# EAGLE library part HDS (library trafo-bei)
Transformer Dual primary 115/230V 50/60HZ 10.0VA Source: BEI_DDS30F_10VA_size.pdf
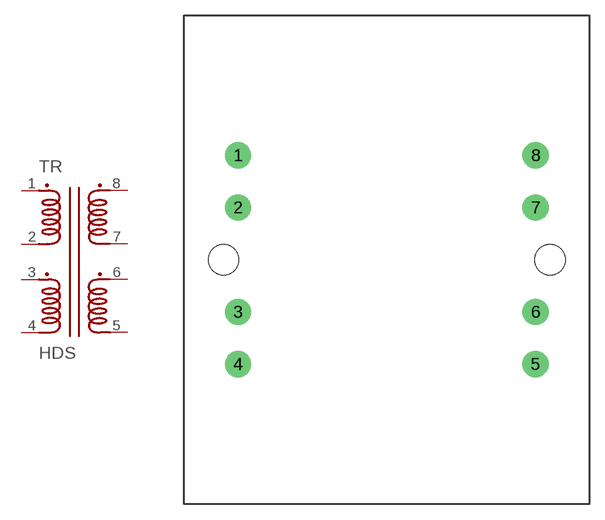
[diagram p0: symbol with the pads of HDS28G2; footprint HDS28G2]

Designator prefix TR

## HDS28G2  [HDS28G2]
1  P1.1  pas
2  P1.2  pas
3  P2.1  pas
4  P2.2  pas
5  S2.2  pas
6  S2.1  pas
7  S1.2  pas
8  S1.1  pas

## Footprint HDS28G2 (pad centres in mm)
Transformer Dual primary 115/230V 50/60HZ 10.0VA Source: BEI_DDS30F_10VA_size.pdf
drill 1.27 pad 2.54 round: 1 -14.478,10.16; 2 -14.478,5.08; 3 -14.478,-5.08; 4 -14.478,-10.16; 5 14.478,-10.16; 6 14.478,-5.08; 7 14.478,5.08; 8 14.478,10.16
hole 2.946 at -15.875,0
hole 2.946 at 15.875,0